# EAGLE library part JN5168-001-M (library heck)
The JN5168-001-Myy family is a range of ultra low power, high performance surface mount modules targeted at IEEE 802.15.4, JenNet-IP, ZigBee Light Link, ZigBee Smart Energy and RF4CE networking applications, enabling users to realise products with minimum time to market and at the lowest cost. They remove the need for expensive and lengthy development of custom RF board designs and test suites. The modules use NXP’s JN5168 wireless microcontroller to provide a comprehensive solution with large memory, high CPU and radio performance and all RF components included. All that is required to develop and manufacture wireless control or sensing products is to connect a power supply and peripherals such as switches, actuators and sensors, considerably simplifying product development. Four module variants are available: JN5168-001-M00 with an integrated antenna, JN5168-001-M03 with an antenna connector and the JN5168-001-M05 and M06 with an antenna connector, power amplifier and LNA for extended range. The JN5168-001-M05 output power has been optimised for use in Europe and Asia.
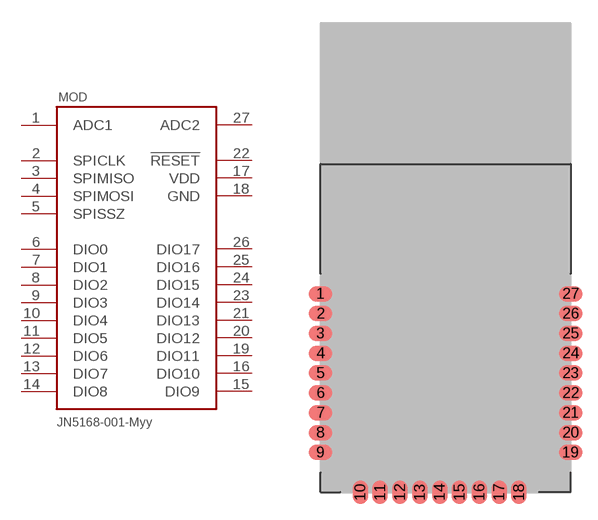
[diagram p51: symbol with the pads of JN5168-001-M00; footprint JN5168-001-M00]

Designator prefix MOD

## JN5168-001-M00  [JN5168-001-M00]
1  ADC1
2  SPICLK
3  SPIMISO
4  SPIMOSI
5  SPISSZ
6  DIO0
7  DIO1
8  DIO2
9  DIO3
10  DIO4
11  DIO5
12  DIO6
13  DIO7
14  DIO8
15  DIO9
16  DIO10
17  VDD  pwr
18  GND  pwr
19  DIO11
20  DIO12
21  DIO13
22  !RESET  in
23  DIO14
24  DIO15
25  DIO16
26  DIO17
27  ADC2

## Footprint JN5168-001-M00 (pad centres in mm)
smd 1.5 x 1: 1 -7.62,10.16; 2 -7.62,8.89; 3 -7.62,7.62; 4 -7.62,6.35; 5 -7.62,5.08; 6 -7.62,3.81; 7 -7.62,2.54; 8 -7.62,1.27; 9 -7.62,0; 19 8.38,0; 20 8.38,1.27; 21 8.38,2.54; 22 8.38,3.81; 23 8.38,5.08; 24 8.38,6.35; 25 8.38,7.62; 26 8.38,8.89; 27 8.38,10.16
smd 1 x 1.5: 10 -5.08,-2.54; 11 -3.81,-2.54; 12 -2.54,-2.54; 13 -1.27,-2.54; 14 0,-2.54; 15 1.27,-2.54; 16 2.54,-2.54; 17 3.81,-2.54; 18 5.08,-2.54